# Altium integrated library can_integrated_circuits.IntLib: 4 symbols
Pins are listed as number, name and electrical type; pins without a type are passive.

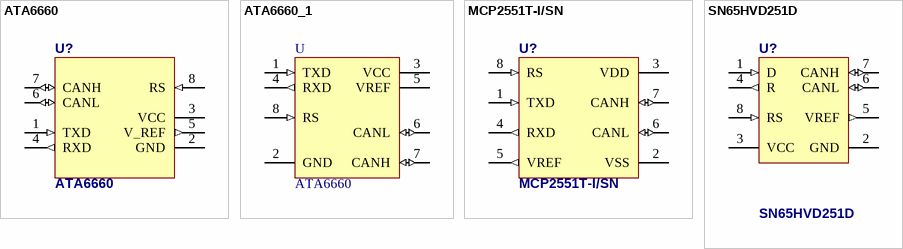
[diagram p0: symbols ATA6660 to SN65HVD251D]

## ATA6660
designator U?
High-speed CAN Transceiver; Published: 03-Feb-2006; PackageReference: SO8
footprint SO8 (Small Outline; 8 Leads; Body Width 3.7 mm; Pitch 1.27 mm)
pins: 1 TXD (in), 2 GND (power), 3 VCC (power), 4 RXD (out), 5 V_REF (out), 6 CANL (io), 7 CANH (io), 8 RS (in)

## ATA6660_1
designator U, comment ATA6660
High Speed CAN Transceiver
footprint SO8 (Footprint not found)
pins: 1 TXD (in), 2 GND (power), 3 VCC (power), 4 RXD (out), 5 VREF (power), 6 CANL (io), 7 CANH (io), 8 RS (in)

## MCP2551T-I/SN
designator U?
High-Speed CAN Transceiver, 8-Pin SOIC, Extended Temperature, Tape and Reel; Manufacturer: Microchip; PartNumber: MCP2551T-E/SN; DatasheetVersion: revF, Jul-2010; PackageVersion: revBB, Aug-2009; PackageReference: SOIC-SN8; PackageDescription: 8-Lead Plastic Small Outline (SN) - Narrow, 3.90mm Body [SOIC]; Mounting Technology: Surface Mount; Code_JEDEC: MS-012; Code_IPC: SOIC127P600-8; ComponentLink1Description: Manufacturer URL; ComponentLink1URL: http://www.microchip.com/; ComponentLink2Description: Datasheet; ComponentLink2URL: http://ww1.microchip.com/downloads/en/DeviceDoc/21667F.pdf; ComponentLink3Description: Package Specification; ComponentLink3URL: http://www.microchip.com/stellent/groups/techpub_sg/documents/packagingspec/en012702.pdf; Supplier 1: Farnell; Supplier Part Number 1: 2411699
footprint SO8 (Small Outline; 8 Leads; Body Width 3.7 mm; Pitch 1.27 mm)
pins: 1 TXD (in), 2 VSS (power), 3 VDD (power), 4 RXD (out), 5 VREF (out), 6 CANL (io), 7 CANH (io), 8 RS (in)

## SN65HVD251D
designator U?
Industrial CAN Transceiver, 65 mA, 5 V, -40 to 125 degC, 8-pin SOIC (D), Green (RoHS & no Sb/Br); Manufacturer: Texas Instruments; Drivers Per Package: 1; Bus Fault Voltage(V): -36 to +36; Transient Pulse Protection(V): -200 to 200; ICC(Max)(mA): 65; Supply Voltage(s)(V): 5; Rating: Catalog; DatasheetVersion: SLLS545E; PackageVersion: revM, Jun-2011; PackageReference: D8; PackageDescription: 8-Pin Plastic Small Outline Integrated Circuit, 4.9 x 3.9 mm, Pitch 1.27 mm Pitch; Supplier 1: Digi-Key; Supplier Part Number 1: 296-13816-5-ND; Supplier 2: Farnell; Supplier Part Number 2: 1212364; Supplier 3: Farnell; Supplier Part Number 3: 2131463; Supplier 4: Newark; Supplier Part Number 4: 16M2475; Supplier 5: Mouser; Supplier Part Number 5: 595-SN65HVD251D; Eco-Plan: Green (RoHS & no Sb/Br); SubFamily: CAN; Receivers Per Package: 1; Isolated: No; Footprint: PCA82C250; Mounting Technology: Surface Mount; PartNumber: SN65HVD251D; Code_JEDEC: MS-012AA; ComponentLink1Description: Datasheet; ComponentLink1URL: http://www.ti.com/general/docs/lit/getliterature.tsp?genericPartNumber=SN65HVD251&fileType=pdf
footprint SO8 (Small Outline; 8 Leads; Body Width 3.7 mm; Pitch 1.27 mm)
pins: 1 D (in), 2 GND (power), 3 VCC (power), 4 R (out), 5 VREF (out), 6 CANL (io), 7 CANH (io), 8 RS (in)
1 alternate drawing of the same symbol